# Altium footprint library Pcb封装库.PcbLib: 3 footprints
Each footprint in its own frame and in the unit in brackets; x right, y up, seen from the top. Pads: shape width x height; smd on the part's side, far side on the other; paste and mask are expansions set on the pad; w line width, h text height; cw(c..) or ccw(c..) is an arc to the next point about the centre after c.
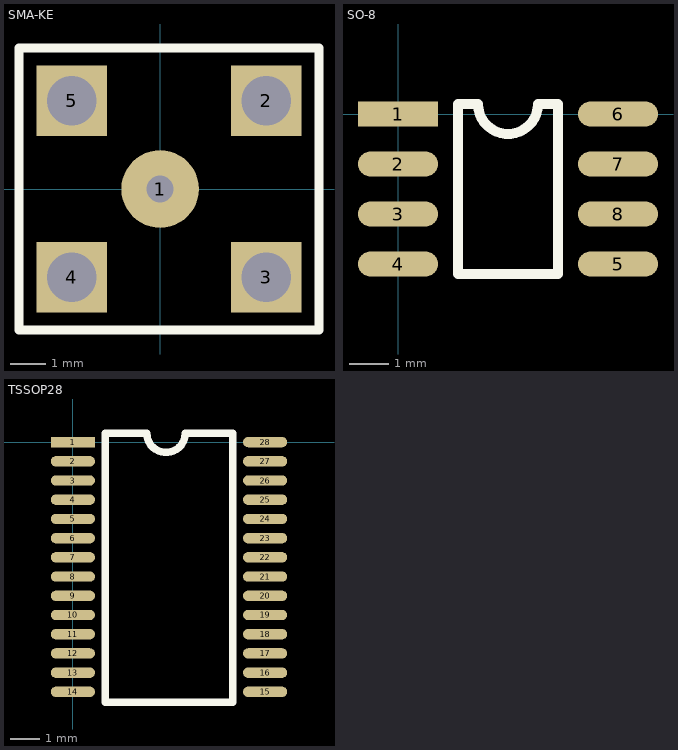
[diagram p0: the footprints below, top view; thin cyan lines are the x and y axes]

## SMA-KE [mm]
pads (5):
  round 2.2 hole 0.762: 1(0,0)
  rect 2x2 hole 1.4: 2(3,2.5) 3(3,-2.5) 4(-2.5,-2.5) 5(-2.5,2.5)
Top Overlay:
  lines w0.254: -4,-4 -3.5,-4 4.5,-4 4.5,4 -4,4 -4,-4

## SO-8 [mil]
pads (8):
  rect 80x25 smd: 1(0,0)
  oval 80x25 smd: 2(0,-50) 3(0,-100) 4(0,-150) 5(220,-150) 6(220,0) 7(220,-50) 8(220,-100)
Top Overlay:
  lines w10: 60,-160 60,10 80,10 ccw(c110,10) 140,10 160,10 160,-160 60,-160

## TSSOP28 [mm]
pads (28):
  rect 1.5x0.35 smd: 1(0,0)
  oval 1.5x0.35 smd: 2(0,-0.65) 3(0,-1.3) 4(0,-1.95) 5(0,-2.6) 6(0,-3.25) 7(0,-3.9) 8(0,-4.55) 9(0,-5.2) 10(0,-5.85) 11(0,-6.5) 12(0,-7.15) 13(0,-7.8) 14(0,-8.45) 15(6.5,-8.45) 16(6.5,-7.8) 17(6.5,-7.15) 18(6.5,-6.5) 19(6.5,-5.85) 20(6.5,-5.2) 21(6.5,-4.55) 22(6.5,-3.9) 23(6.5,-3.25) 24(6.5,-2.6) 25(6.5,-1.95) 26(6.5,-1.3) 27(6.5,-0.65) 28(6.5,0)
Top Overlay:
  lines w0.254: 1.1,-8.8 5.4,-8.8 5.4,0.3 3.8,0.3 cw(c3.15,0.3) 2.5,0.3 1.1,0.3 1.1,-8.8